# Altium footprint library Termal controller.PcbLib: 39 footprints (part 3 of 3)
Each footprint in its own frame and in the unit in brackets; x right, y up, seen from the top. Pads: shape width x height; smd on the part's side, far side on the other; paste and mask are expansions set on the pad; w line width, h text height; cw(c..) or ccw(c..) is an arc to the next point about the centre after c.
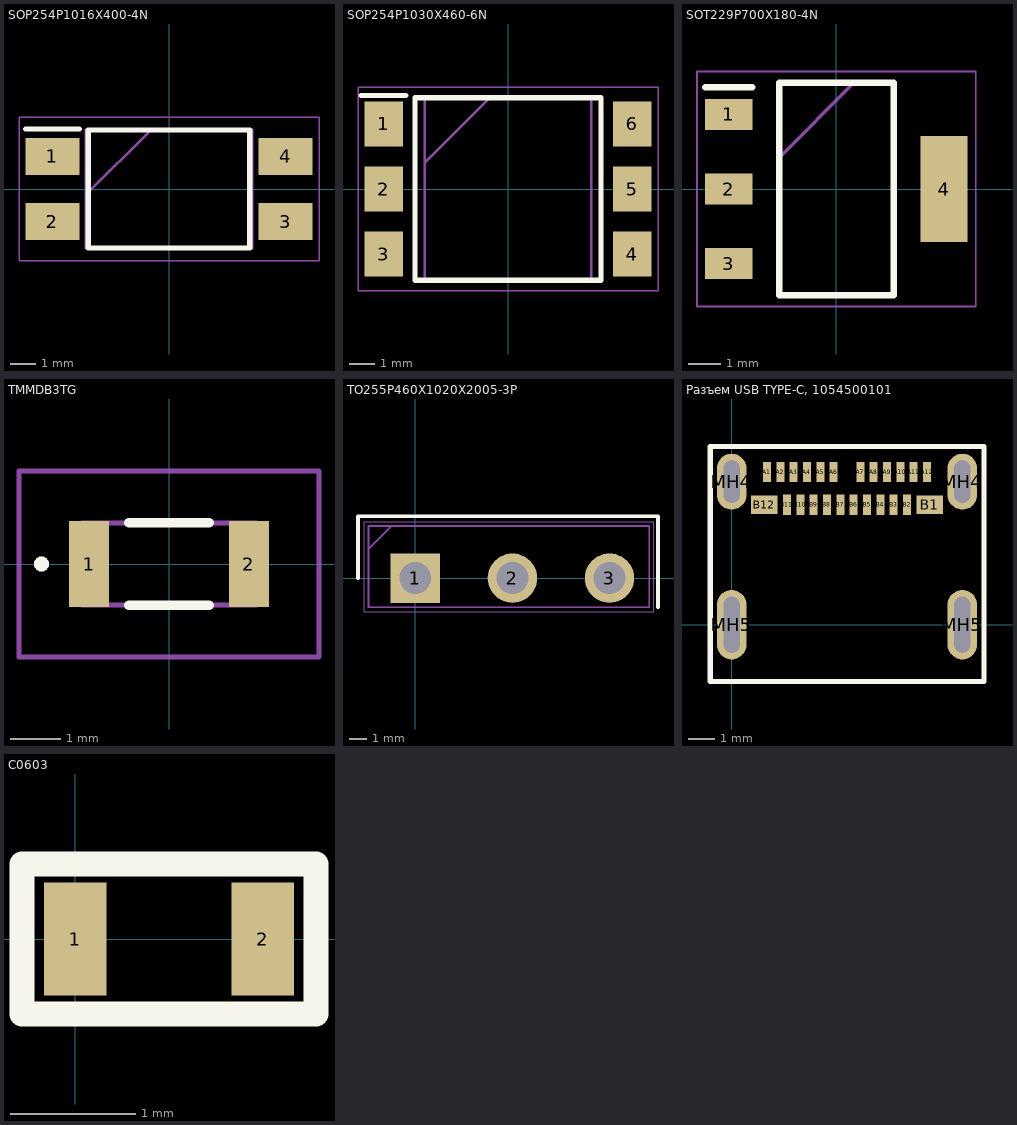
[diagram p2: the footprints below, top view; thin cyan lines are the x and y axes]

## SOP254P1016X400-4N [mm]
pads (4):
  rect 2.1x1.45 smd: 1(-4.55,1.27) 2(-4.55,-1.27) 3(4.55,-1.27) 4(4.55,1.27)
Top Overlay:
  lines w0.2: -5.6,2.345 -3.5,2.345 ; -3.15,-2.3 3.15,-2.3 3.15,2.3 -3.15,2.3 -3.15,-2.3
Mechanical 13:
  lines w0.1: -3.25,-0.24 -0.71,2.3 ; -3.25,-2.3 3.25,-2.3 3.25,2.3 -3.25,2.3 -3.25,-2.3
Mechanical 15:
  lines w0.05: -5.85,-2.8 5.85,-2.8 5.85,2.8 -5.85,2.8 -5.85,-2.8
3D body "LTV-817S-TA1.stp": height 3.85, standoff 0, extent -5.08,-2.3 5.08,2.3

## SOP254P1030X460-6N [mm]
pads (6):
  rect 1.5x1.75 smd: 1(-4.85,2.54) 2(-4.85,0) 3(-4.85,-2.54) 4(4.85,-2.54) 5(4.85,0) 6(4.85,2.54)
Top Overlay:
  lines w0.2: -5.725,3.64 -3.975,3.64 ; -3.625,-3.56 -3.625,3.56 3.625,3.56 3.625,-3.56 -3.625,-3.56
Mechanical 13:
  lines w0.1: -3.25,1.02 -0.71,3.56 ; -3.25,-3.56 -3.25,3.56 3.25,3.56 3.25,-3.56 -3.25,-3.56
Mechanical 15:
  lines w0.05: -5.85,-3.96 -5.85,3.96 5.85,3.96 5.85,-3.96 -5.85,-3.96
3D body "EL3063S_TA_.stp": height 4.6, standoff 0, extent -5.15,-3.56 5.15,3.56

## SOT229P700X180-4N [mm]
pads (4):
  rect 1.45x0.95 smd: 1(-3.3,2.29) 2(-3.3,0) 3(-3.3,-2.29)
  rect 1.45x3.25 smd: 4(3.3,0)
Top Overlay:
  lines w0.2: -4.025,3.115 -2.575,3.115 ; -1.752,-3.252 -1.752,3.252 1.752,3.252 1.752,-3.252 -1.752,-3.252
Mechanical 13:
  lines w0.1: -1.752,0.962 0.538,3.252 ; -1.752,-3.252 -1.752,3.252 1.752,3.252 1.752,-3.252 -1.752,-3.252
Mechanical 15:
  lines w0.05: -4.275,-3.605 -4.275,3.605 4.275,3.605 4.275,-3.605 -4.275,-3.605
3D body "AMS1117-3.3.stp": height 1.8, standoff 0, extent -3.355,-3.15 3.355,3.15

## TMMDB3TG [mm]
pads (2):
  rect 0.8x1.72 smd: 1(-1.6,0) 2(1.6,0)
Top Overlay:
  lines w0.2: -0.8,-0.825 0.8,-0.825 ; -0.8,0.825 0.8,0.825 ; -2.6,0 ccw(c-2.55,0) -2.5,0 ; -2.6,0 cw(c-2.55,0) -2.5,0 ; -2.6,0 ccw(c-2.55,0) -2.5,0
Mechanical 13:
  lines w0.1: -1.75,-0.825 -1.75,0.825 1.75,0.825 1.75,-0.825 -1.75,-0.825
Mechanical 15:
  lines w0.1: -3,-1.86 -3,1.86 3,1.86 3,-1.86 -3,-1.86
3D body "TMMDB3TG.stp": height 1.7, standoff 0, extent -1.854,-0.851 1.854,0.851

## TO255P460X1020X2005-3P [mm]
pads (3):
  rect 2.8x2.8 hole 1.8: 1(0,0)
  round 2.8 hole 1.8: 2(5.5,0) 3(11,0)
Top Overlay:
  lines w0.2: -3.25,0 -3.25,3.5 13.75,3.5 13.75,-1.65
Mechanical 13:
  lines w0.1: -2.65,1.675 -1.375,2.95 ; -2.65,-1.65 -2.65,2.95 13.25,2.95 13.25,-1.65 -2.65,-1.65
Mechanical 15:
  lines w0.05: -2.9,-1.9 13.5,-1.9 13.5,3.2 -2.9,3.2 -2.9,-1.9
3D body "BTA24-800CWRG.stp": height 21.47, standoff -14.6, extent -2.12,-1.301 13.18,3.2

## Разъем USB TYPE-C, 1054500101 [mm]
pads (28):
  rect 0.3x0.76 smd: A1(1.32,5.72) A2(1.82,5.72) A3(2.32,5.72) A4(2.82,5.72) A5(3.32,5.72) A6(3.82,5.72) A7(4.82,5.72) A8(5.32,5.72) A9(5.82,5.72) A10(6.32,5.72) A11(6.82,5.72) A12(7.32,5.72) B2(6.57,4.5) B3(6.07,4.5) B4(5.57,4.5) B5(5.07,4.5) B6(4.57,4.5) B7(4.07,4.5) B8(3.57,4.5) B9(3.07,4.5) B10(2.57,4.5) B11(2.07,4.5)
  rect 1x0.7 smd: B1(7.42,4.5) B12(1.22,4.5)
  oval 1.1x2.1 hole 0.6 slot 1.6 at 90 deg: MH4(0,5.36) MH4(8.64,5.36)
  oval 1.1x2.6 hole 0.6 slot 2.1 at 90 deg: MH5(0,0) MH5(8.64,0)
Top Overlay:
  lines w0.2: -0.8,-2.125 9.45,-2.125 9.45,6.675 -0.8,6.675 -0.8,-2.125
3D body "1054500101, Разъем USB TYPE-C.stp": height 3.18, standoff -0.78, extent -0.145,-1.9 8.795,6

## С0603 [mm]
pads (2):
  rect 0.5x0.9 smd: 1(0,0) 2(1.5,0)
Top Overlay:
  lines w0.2: -0.425,-0.6 1.925,-0.6 1.925,0.6 -0.425,0.6 -0.425,-0.6
3D body "74467.stp": height 0.86, standoff -0.01, extent -0.125,-0.475 1.625,0.475